# EAGLE library part L293-D (library BaseApp)
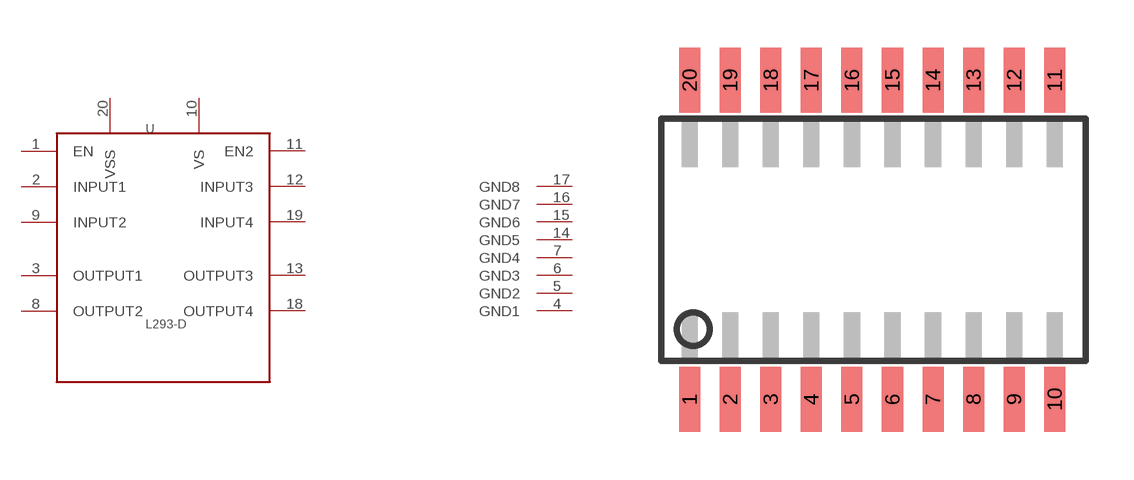
[diagram p39: symbol with the pads of SOIC-20; footprint SOIC-20]

Designator prefix -

## L293-D  [SOIC-20]
1  EN
2  INPUT1
3  OUTPUT1
4  GND1
5  GND2
6  GND3
7  GND4
8  OUTPUT2
9  INPUT2
10  VS
11  EN2
12  INPUT3
13  OUTPUT3
14  GND5
15  GND6
16  GND7
17  GND8
18  OUTPUT4
19  INPUT4
20  VSS

## Footprint SOIC-20 (pad centres in mm)
smd 0.66 x 2.032: 1 -5.715,-5; 2 -4.445,-5; 3 -3.175,-5; 4 -1.905,-5; 5 -0.635,-5; 6 0.635,-5; 7 1.905,-5; 8 3.175,-5; 9 4.445,-5; 10 5.715,-5; 11 5.715,5; 12 4.445,5; 13 3.175,5; 14 1.905,5; 15 0.635,5; 16 -0.635,5; 17 -1.905,5; 18 -3.175,5; 19 -4.445,5; 20 -5.715,5